# EAGLE library part LTC4412 (library satellite)
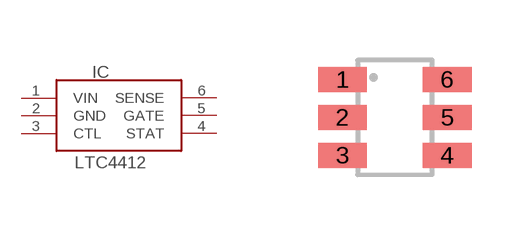
[diagram p2: symbol with the pads of TSOT-23; footprint TSOT-23]

Designator prefix IC

## LTC4412  [TSOT-23]
1  VIN
2  GND
3  CTL
4  STAT
5  GATE
6  SENSE

## Footprint TSOT-23 (pad centres in mm)
smd 1.22 x 0.62: 1 -1.31,0.95; 2 -1.31,0; 3 -1.31,-0.95; 4 1.31,-0.95; 5 1.31,0; 6 1.31,0.95